# Altium integrated library TI Interface Display.IntLib: 133 symbols (part 1 of 16)
Pins are listed as number, name and electrical type; pins without a type are passive.

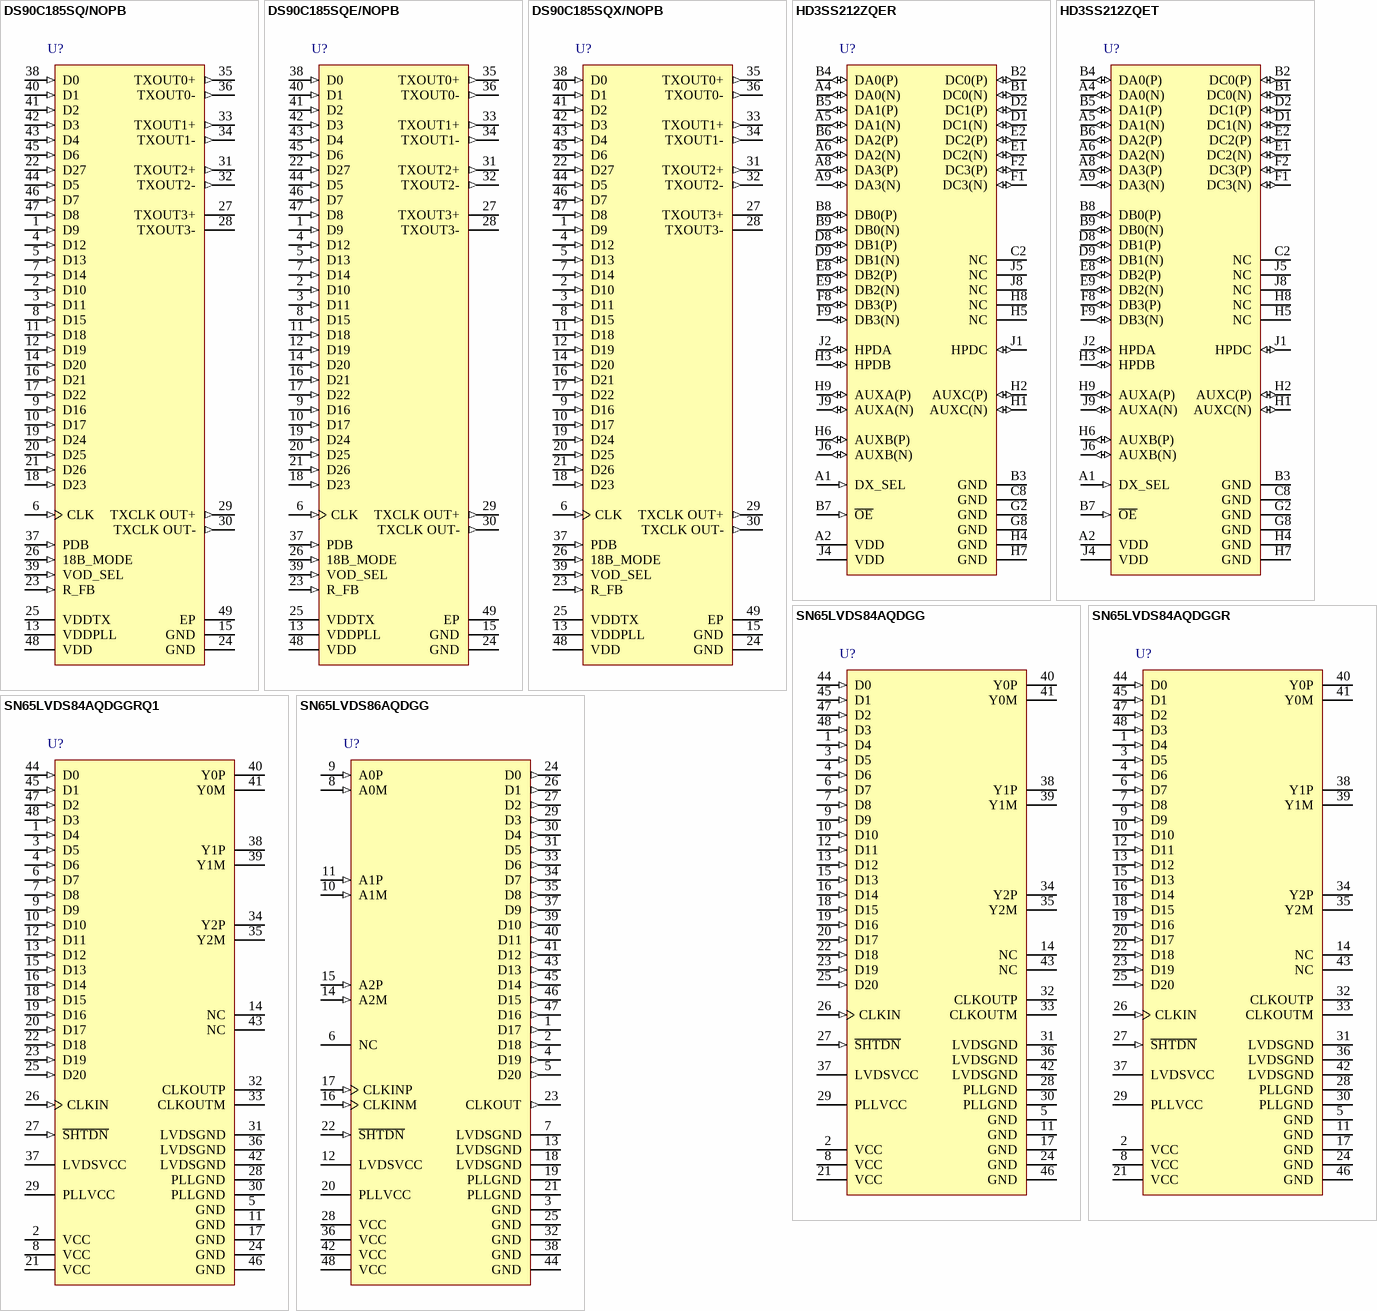
[diagram p0: symbols DS90C185SQ/NOPB to SN65LVDS86AQDGG]

## DS90C185SQ/NOPB
designator U?
367 MB/s Low Power FPD-Link (LVDS) Serializer with 4 Transmitter Channels, 1.8 V, SQF48A; Manufacturer: Texas Instruments; PartNumber: DS90C185SQ/NOPB; Data Throughput(MB/s): 367; Driver (RL)(Ohms): 100; Number of Parallel Inputs: 28; PLL Frequency(MHz): 25 - 105; Serial Data Transmitter Channels: 4; SubFamily: FlatLink (LVDS for LCD); Supply Voltage(s)(V): 1.8; DatasheetVersion: SNLS402; PackageVersion: revA, Apr-2012; PackageReference: SQF48A; PackageDescription: 48-Pin LLP Quad Package, 6 x 6 mm Body, 0.4 mm Pitch, 4.6 x 4.6 mm Exposed Pad; Supplier 1: Digi-Key; Supplier Part Number 1: DS90C185SQ/NOPBTR-ND; Supplier 2: Digi-Key; Supplier Part Number 2: DS90C185SQ/NOPBCT-ND; Supplier 3: Digi-Key; Supplier Part Number 3: DS90C185SQ/NOPBDKR-ND; Supplier 4: Newark; Supplier Part Number 4: 05W7593; Supplier 5: Mouser; Supplier Part Number 5: N/A; Driver tpd(ns): 100; Type of Line Circuit: Serializer; Mounting Technology: Surface Mount; ComponentLink1Description: Datasheet; ComponentLink1URL: http://www.ti.com/general/docs/lit/getliterature.tsp?genericPartNumber=DS90C185&fileType=pdf; ComponentLink2Description: URL Link1; ComponentLink2URL: SamplesURL:http://www.ti.com/product/ds90c185#samples
footprint SQF48A (QFN, 48-Leads, Body 6x6mm, Pitch 0.4mm, Thermal Pad 4.6x4.6mm, TI Recommended)
footprint SQF48A_N (QFN, 48-Leads, Body 6x6mm, Pitch 0.4mm, Thermal Pad 4.6x4.6mm, IPC Medium Density)
footprint SQF48A_L (QFN, 48-Leads, Body 6x6mm, Pitch 0.4mm, Thermal Pad 4.6x4.6mm, IPC High Density)
footprint SQF48A_M (QFN, 48-Leads, Body 6x6mm, Pitch 0.4mm, Thermal Pad 4.6x4.6mm, IPC Low Density)
pins: 1 D9 (in) "Data input pins.This includes: 8 Red, 8 Green, 8 Blue, and 3 video control lines and a general purpose or L/R control bit. Includes pull down.", 2 D10 (in) "Data input pins.This includes: 8 Red, 8 Green, 8 Blue, and 3 video control lines and a general purpose or L/R control bit. Includes pull down.", 3 D11 (in) "Data input pins.This includes: 8 Red, 8 Green, 8 Blue, and 3 video control lines and a general purpose or L/R control bit. Includes pull down.", 4 D12 (in) "Data input pins.This includes: 8 Red, 8 Green, 8 Blue, and 3 video control lines and a general purpose or L/R control bit. Includes pull down.", 5 D13 (in) "Data input pins.This includes: 8 Red, 8 Green, 8 Blue, and 3 video control lines and a general purpose or L/R control bit. Includes pull down.", 6 CLK (in) "Clock input. Includes pull down.", 7 D14 (in) "Data input pins.This includes: 8 Red, 8 Green, 8 Blue, and 3 video control lines and a general purpose or L/R control bit. Includes pull down.", 8 D15 (in) "Data input pins.This includes: 8 Red, 8 Green, 8 Blue, and 3 video control lines and a general purpose or L/R control bit. Includes pull down.", 9 D16 (in) "Data input pins.This includes: 8 Red, 8 Green, 8 Blue, and 3 video control lines and a general purpose or L/R control bit. Includes pull down.", 10 D17 (in) "Data input pins.This includes: 8 Red, 8 Green, 8 Blue, and 3 video control lines and a general purpose or L/R control bit. Includes pull down.", 11 D18 (in) "Data input pins.This includes: 8 Red, 8 Green, 8 Blue, and 3 video control lines and a general purpose or L/R control bit. Includes pull down.", 12 D19 (in) "Data input pins.This includes: 8 Red, 8 Green, 8 Blue, and 3 video control lines and a general purpose or L/R control bit. Includes pull down.", 13 VDDPLL (power) "PLL power input.", 14 D20 (in) "Data input pins.This includes: 8 Red, 8 Green, 8 Blue, and 3 video control lines and a general purpose or L/R control bit. Includes pull down.", 15 GND (power) "Ground pins.", 16 D21 (in) "Data input pins.This includes: 8 Red, 8 Green, 8 Blue, and 3 video control lines and a general purpose or L/R control bit. Includes pull down.", 17 D22 (in) "Data input pins.This includes: 8 Red, 8 Green, 8 Blue, and 3 video control lines and a general purpose or L/R control bit. Includes pull down.", 18 D23 (in) "Data input pins.This includes: 8 Red, 8 Green, 8 Blue, and 3 video control lines and a general purpose or L/R control bit. Includes pull down.", 19 D24 (in) "Data input pins.This includes: 8 Red, 8 Green, 8 Blue, and 3 video control lines and a general purpose or L/R control bit. Includes pull down.", 20 D25 (in) "Data input pins.This includes: 8 Red, 8 Green, 8 Blue, and 3 video control lines and a general purpose or L/R control bit. Includes pull down.", 21 D26 (in) "Data input pins.This includes: 8 Red, 8 Green, 8 Blue, and 3 video control lines and a general purpose or L/R control bit. Includes pull down.", 22 D27 (in) "Data input pins.This includes: 8 Red, 8 Green, 8 Blue, and 3 video control lines and a general purpose or L/R control bit. Includes pull down.", 23 R_FB (in) "LVTTL Ievel programmable strobe select. 1 = Rising Edge Clock 0 = Falling Edge Clock Includes pull down.", 24 GND (power) "Ground pins.", 25 VDDTX (power) "LVDS driver power input.", 26 18B_MODE (in) "Mode Configuration Input. 1 = 3D+C (18 bit RGB mode) 0 = 4D+C (24 bit RGB mode)-- default. Includes pull down.", 27 TXOUT3+ (hiz) "LVDS Output Data -- Expects 100 ohm DC load.", 28 TXOUT3- (hiz) "LVDS Output Data -- Expects 100 ohm DC load.", 29 TXCLK OUT+ (out) "LVDS Output Clock -- Expects 100 ohm DC load.", 30 TXCLK OUT- (out) "LVDS Output Clock -- Expects 100 ohm DC load.", 31 TXOUT2+ (out) "LVDS Output Data -- Expects 100 ohm DC load.", 32 TXOUT2- (out) "LVDS Output Data -- Expects 100 ohm DC load.", 33 TXOUT1+ (out) "LVDS Output Data -- Expects 100 ohm DC load.", 34 TXOUT1- (out) "LVDS Output Data -- Expects 100 ohm DC load.", 35 TXOUT0+ (out) "LVDS Output Data -- Expects 100 ohm DC load.", 36 TXOUT0- (out) "LVDS Output Data -- Expects 100 ohm DC load.", 37 PDB (in) "Power Down Bar(Sleep) Input. 1 = ACTIVE 0 = Sleep State (low power idle) -- default. Includes pull down.", 38 D0 (in) "Data input pins.This includes: 8 Red, 8 Green, 8 Blue, and 3 video control lines and a general purpose or L/R control bit. Includes pull down.", 39 VOD_SEL (in) "VOD Select Input.0 = Reduced VOD (lower power) 1=Normal VOD -- default. Includes pull down.", 40 D1 (in) "Data input pins.This includes: 8 Red, 8 Green, 8 Blue, and 3 video control lines and a general purpose or L/R control bit. Includes pull down.", 41 D2 (in) "Data input pins.This includes: 8 Red, 8 Green, 8 Blue, and 3 video control lines and a general purpose or L/R control bit. Includes pull down.", 42 D3 (in) "Data input pins.This includes: 8 Red, 8 Green, 8 Blue, and 3 video control lines and a general purpose or L/R control bit. Includes pull down.", 43 D4 (in) "Data input pins.This includes: 8 Red, 8 Green, 8 Blue, and 3 video control lines and a general purpose or L/R control bit. Includes pull down.", 44 D5 (in) "Data input pins.This includes: 8 Red, 8 Green, 8 Blue, and 3 video control lines and a general purpose or L/R control bit. Includes pull down.", 45 D6 (in) "Data input pins.This includes: 8 Red, 8 Green, 8 Blue, and 3 video control lines and a general purpose or L/R control bit. Includes pull down.", 46 D7 (in) "Data input pins.This includes: 8 Red, 8 Green, 8 Blue, and 3 video control lines and a general purpose or L/R control bit. Includes pull down.", 47 D8 (in) "Data input pins.This includes: 8 Red, 8 Green, 8 Blue, and 3 video control lines and a general purpose or L/R control bit. Includes pull down.", 48 VDD (power) "Digital power input.", 49 EP (power) "Connect DAP to ground plane"

## DS90C185SQE/NOPB
designator U?
367 MB/s Low Power FPD-Link (LVDS) Serializer with 4 Transmitter Channels, 1.8 V, 48-pin LLP (SQF); Manufacturer: Texas Instruments; PartNumber: DS90C185SQE/NOPB; Data Throughput(MB/s): 367; Driver (RL)(Ohms): 100; Number of Parallel Inputs: 28; PLL Frequency(MHz): 25 - 105; Serial Data Transmitter Channels: 4; SubFamily: FlatLink (LVDS for LCD); Supply Voltage(s)(V): 1.8; DatasheetVersion: SNLS402; PackageVersion: revA, Apr-2012; PackageReference: SQF48A; PackageDescription: 48-Pin LLP Quad Package, 6 x 6 mm Body, 0.4 mm Pitch, 4.6 x 4.6 mm Exposed Pad; Supplier 1: Newark; Supplier Part Number 1: 05W7594; Supplier 2: Mouser; Supplier Part Number 2: N/A; Driver tpd(ns): 100; Type of Line Circuit: Serializer; Mounting Technology: Surface Mount; ComponentLink1Description: Datasheet; ComponentLink1URL: http://www.ti.com/general/docs/lit/getliterature.tsp?genericPartNumber=DS90C185&fileType=pdf; ComponentLink2Description: URL Link1; ComponentLink2URL: SamplesURL:http://www.ti.com/product/ds90c185#samples
footprint SQF48A (QFN, 48-Leads, Body 6x6mm, Pitch 0.4mm, Thermal Pad 4.6x4.6mm, TI Recommended)
footprint SQF48A_N (QFN, 48-Leads, Body 6x6mm, Pitch 0.4mm, Thermal Pad 4.6x4.6mm, IPC Medium Density)
footprint SQF48A_L (QFN, 48-Leads, Body 6x6mm, Pitch 0.4mm, Thermal Pad 4.6x4.6mm, IPC High Density)
footprint SQF48A_M (QFN, 48-Leads, Body 6x6mm, Pitch 0.4mm, Thermal Pad 4.6x4.6mm, IPC Low Density)
pins: 1 D9 (in) "Data input pins.This includes: 8 Red, 8 Green, 8 Blue, and 3 video control lines and a general purpose or L/R control bit. Includes pull down.", 2 D10 (in) "Data input pins.This includes: 8 Red, 8 Green, 8 Blue, and 3 video control lines and a general purpose or L/R control bit. Includes pull down.", 3 D11 (in) "Data input pins.This includes: 8 Red, 8 Green, 8 Blue, and 3 video control lines and a general purpose or L/R control bit. Includes pull down.", 4 D12 (in) "Data input pins.This includes: 8 Red, 8 Green, 8 Blue, and 3 video control lines and a general purpose or L/R control bit. Includes pull down.", 5 D13 (in) "Data input pins.This includes: 8 Red, 8 Green, 8 Blue, and 3 video control lines and a general purpose or L/R control bit. Includes pull down.", 6 CLK (in) "Clock input. Includes pull down.", 7 D14 (in) "Data input pins.This includes: 8 Red, 8 Green, 8 Blue, and 3 video control lines and a general purpose or L/R control bit. Includes pull down.", 8 D15 (in) "Data input pins.This includes: 8 Red, 8 Green, 8 Blue, and 3 video control lines and a general purpose or L/R control bit. Includes pull down.", 9 D16 (in) "Data input pins.This includes: 8 Red, 8 Green, 8 Blue, and 3 video control lines and a general purpose or L/R control bit. Includes pull down.", 10 D17 (in) "Data input pins.This includes: 8 Red, 8 Green, 8 Blue, and 3 video control lines and a general purpose or L/R control bit. Includes pull down.", 11 D18 (in) "Data input pins.This includes: 8 Red, 8 Green, 8 Blue, and 3 video control lines and a general purpose or L/R control bit. Includes pull down.", 12 D19 (in) "Data input pins.This includes: 8 Red, 8 Green, 8 Blue, and 3 video control lines and a general purpose or L/R control bit. Includes pull down.", 13 VDDPLL (power) "PLL power input.", 14 D20 (in) "Data input pins.This includes: 8 Red, 8 Green, 8 Blue, and 3 video control lines and a general purpose or L/R control bit. Includes pull down.", 15 GND (power) "Ground pins.", 16 D21 (in) "Data input pins.This includes: 8 Red, 8 Green, 8 Blue, and 3 video control lines and a general purpose or L/R control bit. Includes pull down.", 17 D22 (in) "Data input pins.This includes: 8 Red, 8 Green, 8 Blue, and 3 video control lines and a general purpose or L/R control bit. Includes pull down.", 18 D23 (in) "Data input pins.This includes: 8 Red, 8 Green, 8 Blue, and 3 video control lines and a general purpose or L/R control bit. Includes pull down.", 19 D24 (in) "Data input pins.This includes: 8 Red, 8 Green, 8 Blue, and 3 video control lines and a general purpose or L/R control bit. Includes pull down.", 20 D25 (in) "Data input pins.This includes: 8 Red, 8 Green, 8 Blue, and 3 video control lines and a general purpose or L/R control bit. Includes pull down.", 21 D26 (in) "Data input pins.This includes: 8 Red, 8 Green, 8 Blue, and 3 video control lines and a general purpose or L/R control bit. Includes pull down.", 22 D27 (in) "Data input pins.This includes: 8 Red, 8 Green, 8 Blue, and 3 video control lines and a general purpose or L/R control bit. Includes pull down.", 23 R_FB (in) "LVTTL Ievel programmable strobe select. 1 = Rising Edge Clock 0 = Falling Edge Clock Includes pull down.", 24 GND (power) "Ground pins.", 25 VDDTX (power) "LVDS driver power input.", 26 18B_MODE (in) "Mode Configuration Input. 1 = 3D+C (18 bit RGB mode) 0 = 4D+C (24 bit RGB mode)-- default. Includes pull down.", 27 TXOUT3+ (hiz) "LVDS Output Data -- Expects 100 ohm DC load.", 28 TXOUT3- (hiz) "LVDS Output Data -- Expects 100 ohm DC load.", 29 TXCLK OUT+ (out) "LVDS Output Clock -- Expects 100 ohm DC load.", 30 TXCLK OUT- (out) "LVDS Output Clock -- Expects 100 ohm DC load.", 31 TXOUT2+ (out) "LVDS Output Data -- Expects 100 ohm DC load.", 32 TXOUT2- (out) "LVDS Output Data -- Expects 100 ohm DC load.", 33 TXOUT1+ (out) "LVDS Output Data -- Expects 100 ohm DC load.", 34 TXOUT1- (out) "LVDS Output Data -- Expects 100 ohm DC load.", 35 TXOUT0+ (out) "LVDS Output Data -- Expects 100 ohm DC load.", 36 TXOUT0- (out) "LVDS Output Data -- Expects 100 ohm DC load.", 37 PDB (in) "Power Down Bar(Sleep) Input. 1 = ACTIVE 0 = Sleep State (low power idle) -- default. Includes pull down.", 38 D0 (in) "Data input pins.This includes: 8 Red, 8 Green, 8 Blue, and 3 video control lines and a general purpose or L/R control bit. Includes pull down.", 39 VOD_SEL (in) "VOD Select Input.0 = Reduced VOD (lower power) 1=Normal VOD -- default. Includes pull down.", 40 D1 (in) "Data input pins.This includes: 8 Red, 8 Green, 8 Blue, and 3 video control lines and a general purpose or L/R control bit. Includes pull down.", 41 D2 (in) "Data input pins.This includes: 8 Red, 8 Green, 8 Blue, and 3 video control lines and a general purpose or L/R control bit. Includes pull down.", 42 D3 (in) "Data input pins.This includes: 8 Red, 8 Green, 8 Blue, and 3 video control lines and a general purpose or L/R control bit. Includes pull down.", 43 D4 (in) "Data input pins.This includes: 8 Red, 8 Green, 8 Blue, and 3 video control lines and a general purpose or L/R control bit. Includes pull down.", 44 D5 (in) "Data input pins.This includes: 8 Red, 8 Green, 8 Blue, and 3 video control lines and a general purpose or L/R control bit. Includes pull down.", 45 D6 (in) "Data input pins.This includes: 8 Red, 8 Green, 8 Blue, and 3 video control lines and a general purpose or L/R control bit. Includes pull down.", 46 D7 (in) "Data input pins.This includes: 8 Red, 8 Green, 8 Blue, and 3 video control lines and a general purpose or L/R control bit. Includes pull down.", 47 D8 (in) "Data input pins.This includes: 8 Red, 8 Green, 8 Blue, and 3 video control lines and a general purpose or L/R control bit. Includes pull down.", 48 VDD (power) "Digital power input.", 49 EP (power) "Connect DAP to ground plane"

## DS90C185SQX/NOPB
designator U?
367 MB/s Low Power FPD-Link (LVDS) Serializer with 4 Transmitter Channels, 1.8 V, 48-pin LLP (SQF); Manufacturer: Texas Instruments; PartNumber: DS90C185SQX/NOPB; Data Throughput(MB/s): 367; Driver (RL)(Ohms): 100; Number of Parallel Inputs: 28; PLL Frequency(MHz): 25 - 105; Serial Data Transmitter Channels: 4; SubFamily: FlatLink (LVDS for LCD); Supply Voltage(s)(V): 1.8; DatasheetVersion: SNLS402; PackageVersion: revA, Apr-2012; PackageReference: SQF48A; PackageDescription: 48-Pin LLP Quad Package, 6 x 6 mm Body, 0.4 mm Pitch, 4.6 x 4.6 mm Exposed Pad; Supplier 1: Newark; Supplier Part Number 1: 05W7595; Supplier 2: Mouser; Supplier Part Number 2: N/A; Driver tpd(ns): 100; Type of Line Circuit: Serializer; Mounting Technology: Surface Mount; ComponentLink1Description: Datasheet; ComponentLink1URL: http://www.ti.com/general/docs/lit/getliterature.tsp?genericPartNumber=DS90C185&fileType=pdf; ComponentLink2Description: URL Link1; ComponentLink2URL: SamplesURL:http://www.ti.com/product/ds90c185#samples
footprint SQF48A (QFN, 48-Leads, Body 6x6mm, Pitch 0.4mm, Thermal Pad 4.6x4.6mm, TI Recommended)
footprint SQF48A_N (QFN, 48-Leads, Body 6x6mm, Pitch 0.4mm, Thermal Pad 4.6x4.6mm, IPC Medium Density)
footprint SQF48A_L (QFN, 48-Leads, Body 6x6mm, Pitch 0.4mm, Thermal Pad 4.6x4.6mm, IPC High Density)
footprint SQF48A_M (QFN, 48-Leads, Body 6x6mm, Pitch 0.4mm, Thermal Pad 4.6x4.6mm, IPC Low Density)
pins: 1 D9 (in) "Data input pins.This includes: 8 Red, 8 Green, 8 Blue, and 3 video control lines and a general purpose or L/R control bit. Includes pull down.", 2 D10 (in) "Data input pins.This includes: 8 Red, 8 Green, 8 Blue, and 3 video control lines and a general purpose or L/R control bit. Includes pull down.", 3 D11 (in) "Data input pins.This includes: 8 Red, 8 Green, 8 Blue, and 3 video control lines and a general purpose or L/R control bit. Includes pull down.", 4 D12 (in) "Data input pins.This includes: 8 Red, 8 Green, 8 Blue, and 3 video control lines and a general purpose or L/R control bit. Includes pull down.", 5 D13 (in) "Data input pins.This includes: 8 Red, 8 Green, 8 Blue, and 3 video control lines and a general purpose or L/R control bit. Includes pull down.", 6 CLK (in) "Clock input. Includes pull down.", 7 D14 (in) "Data input pins.This includes: 8 Red, 8 Green, 8 Blue, and 3 video control lines and a general purpose or L/R control bit. Includes pull down.", 8 D15 (in) "Data input pins.This includes: 8 Red, 8 Green, 8 Blue, and 3 video control lines and a general purpose or L/R control bit. Includes pull down.", 9 D16 (in) "Data input pins.This includes: 8 Red, 8 Green, 8 Blue, and 3 video control lines and a general purpose or L/R control bit. Includes pull down.", 10 D17 (in) "Data input pins.This includes: 8 Red, 8 Green, 8 Blue, and 3 video control lines and a general purpose or L/R control bit. Includes pull down.", 11 D18 (in) "Data input pins.This includes: 8 Red, 8 Green, 8 Blue, and 3 video control lines and a general purpose or L/R control bit. Includes pull down.", 12 D19 (in) "Data input pins.This includes: 8 Red, 8 Green, 8 Blue, and 3 video control lines and a general purpose or L/R control bit. Includes pull down.", 13 VDDPLL (power) "PLL power input.", 14 D20 (in) "Data input pins.This includes: 8 Red, 8 Green, 8 Blue, and 3 video control lines and a general purpose or L/R control bit. Includes pull down.", 15 GND (power) "Ground pins.", 16 D21 (in) "Data input pins.This includes: 8 Red, 8 Green, 8 Blue, and 3 video control lines and a general purpose or L/R control bit. Includes pull down.", 17 D22 (in) "Data input pins.This includes: 8 Red, 8 Green, 8 Blue, and 3 video control lines and a general purpose or L/R control bit. Includes pull down.", 18 D23 (in) "Data input pins.This includes: 8 Red, 8 Green, 8 Blue, and 3 video control lines and a general purpose or L/R control bit. Includes pull down.", 19 D24 (in) "Data input pins.This includes: 8 Red, 8 Green, 8 Blue, and 3 video control lines and a general purpose or L/R control bit. Includes pull down.", 20 D25 (in) "Data input pins.This includes: 8 Red, 8 Green, 8 Blue, and 3 video control lines and a general purpose or L/R control bit. Includes pull down.", 21 D26 (in) "Data input pins.This includes: 8 Red, 8 Green, 8 Blue, and 3 video control lines and a general purpose or L/R control bit. Includes pull down.", 22 D27 (in) "Data input pins.This includes: 8 Red, 8 Green, 8 Blue, and 3 video control lines and a general purpose or L/R control bit. Includes pull down.", 23 R_FB (in) "LVTTL Ievel programmable strobe select. 1 = Rising Edge Clock 0 = Falling Edge Clock Includes pull down.", 24 GND (power) "Ground pins.", 25 VDDTX (power) "LVDS driver power input.", 26 18B_MODE (in) "Mode Configuration Input. 1 = 3D+C (18 bit RGB mode) 0 = 4D+C (24 bit RGB mode)-- default. Includes pull down.", 27 TXOUT3+ (hiz) "LVDS Output Data -- Expects 100 ohm DC load.", 28 TXOUT3- (hiz) "LVDS Output Data -- Expects 100 ohm DC load.", 29 TXCLK OUT+ (out) "LVDS Output Clock -- Expects 100 ohm DC load.", 30 TXCLK OUT- (out) "LVDS Output Clock -- Expects 100 ohm DC load.", 31 TXOUT2+ (out) "LVDS Output Data -- Expects 100 ohm DC load.", 32 TXOUT2- (out) "LVDS Output Data -- Expects 100 ohm DC load.", 33 TXOUT1+ (out) "LVDS Output Data -- Expects 100 ohm DC load.", 34 TXOUT1- (out) "LVDS Output Data -- Expects 100 ohm DC load.", 35 TXOUT0+ (out) "LVDS Output Data -- Expects 100 ohm DC load.", 36 TXOUT0- (out) "LVDS Output Data -- Expects 100 ohm DC load.", 37 PDB (in) "Power Down Bar(Sleep) Input. 1 = ACTIVE 0 = Sleep State (low power idle) -- default. Includes pull down.", 38 D0 (in) "Data input pins.This includes: 8 Red, 8 Green, 8 Blue, and 3 video control lines and a general purpose or L/R control bit. Includes pull down.", 39 VOD_SEL (in) "VOD Select Input.0 = Reduced VOD (lower power) 1=Normal VOD -- default. Includes pull down.", 40 D1 (in) "Data input pins.This includes: 8 Red, 8 Green, 8 Blue, and 3 video control lines and a general purpose or L/R control bit. Includes pull down.", 41 D2 (in) "Data input pins.This includes: 8 Red, 8 Green, 8 Blue, and 3 video control lines and a general purpose or L/R control bit. Includes pull down.", 42 D3 (in) "Data input pins.This includes: 8 Red, 8 Green, 8 Blue, and 3 video control lines and a general purpose or L/R control bit. Includes pull down.", 43 D4 (in) "Data input pins.This includes: 8 Red, 8 Green, 8 Blue, and 3 video control lines and a general purpose or L/R control bit. Includes pull down.", 44 D5 (in) "Data input pins.This includes: 8 Red, 8 Green, 8 Blue, and 3 video control lines and a general purpose or L/R control bit. Includes pull down.", 45 D6 (in) "Data input pins.This includes: 8 Red, 8 Green, 8 Blue, and 3 video control lines and a general purpose or L/R control bit. Includes pull down.", 46 D7 (in) "Data input pins.This includes: 8 Red, 8 Green, 8 Blue, and 3 video control lines and a general purpose or L/R control bit. Includes pull down.", 47 D8 (in) "Data input pins.This includes: 8 Red, 8 Green, 8 Blue, and 3 video control lines and a general purpose or L/R control bit. Includes pull down.", 48 VDD (power) "Digital power input.", 49 EP (power) "Connect DAP to ground plane"

## HD3SS212ZQER
designator U?
5.4 Gbps DisplayPort 1.2 2-to-1 Differential Switch, -40 to +85 degC, 48-pin BGA MICROSTARJUNIOR (ZQE), Green (RoHS & no Sb/Br); Manufacturer: Texas Instruments; PartNumber: HD3SS212ZQER; DatasheetVersion: SLAS822; PackageVersion: revF, Jul-2011; PackageReference: ZQE48; PackageDescription: 48-Ball Plastic Ball Grid Array, 5 x 5 mm Body, 0.5 mm Pitch, Pb-Free; Supplier 1: Digi-Key; Supplier Part Number 1: HD3SS212ZQER-ND; Supplier 2: Newark; Supplier Part Number 2: 76T6032; Supplier 3: Mouser; Supplier Part Number 3: 595-HD3SS212ZQER; SubFamily: DisplayPort; Mounting Technology: Surface Mount; Code_JEDEC: MO-225; ComponentLink1Description: Datasheet; ComponentLink1URL: http://www.ti.com/general/docs/lit/getliterature.tsp?genericPartNumber=HD3SS212&fileType=pdf
footprint ZQE48 (BGA, 48-Leads, Body 5x5mm, Pitch 0.5mm)
pins: A1 DX_SEL (in) "High Speed Port Selection Control Pins", A2 VDD (power) "3.3V Positive power supply voltage", A4 DA0(N) (io) "Port A, Channel 0, High Speed Negative Signal", A5 DA1(N) (io) "Port A, Channel 1, High Speed Negative Signal", A6 DA2(N) (io) "Port A, Channel 2, High Speed Negative Signal", A8 DA3(P) (io) "Port A, Channel 3, High Speed Positive Signal", A9 DA3(N) (io) "Port A, Channel 3, High Speed Negative Signal", B1 DC0(N) (io) "Port C, Channel 0, High Speed Negative Signal", B2 DC0(P) (io) "Port C, Channel 0, High Speed Positive Signal", B3 GND (power) "Negative power supply voltage", B4 DA0(P) (io) "Port A, Channel 0, High Speed Positive Signal", B5 DA1(P) (io) "Port A, Channel 1, High Speed Positive Signal", B6 DA2(P) (io) "Port A, Channel 2, High Speed Positive Signal", B7 ~{OE} (in) "Output Enable", B8 DB0(P) (io) "Port B, Channel 0, High Speed Positive Signal", B9 DB0(N) (io) "Port B, Channel 0, High Speed Negative Signal", C2 NC "Electrically not connected", C8 GND (power) "Negative power supply voltage", D1 DC1(N) (io) "Port C, Channel 1, High Speed Negative Signal", D2 DC1(P) (io) "Port C, Channel 1, High Speed Positive Signal", D8 DB1(P) (io) "Port B, Channel 1, High Speed Positive Signal", D9 DB1(N) (io) "Port B, Channel 1, High Speed Negative Signal", E1 DC2(N) (io) "Port C, Channel 2, High Speed Negative Signal", E2 DC2(P) (io) "Port C, Channel 2, High Speed Positive Signal", E8 DB2(P) (io) "Port B, Channel 2, High Speed Positive Signal", E9 DB2(N) (io) "Port B, Channel 2, High Speed Negative Signal", F1 DC3(N) (io) "Port C, Channel 3, High Speed Negative Signal", F2 DC3(P) (io) "Port C, Channel 3, High Speed Positive Signal", F8 DB3(P) (io) "Port B, Channel 3, High Speed Positive Signal", F9 DB3(N) (io) "Port B, Channel 3, High Speed Negative Signal", G2 GND (power) "Negative power supply voltage", G8 GND (power) "Negative power supply voltage", H1 AUXC(N) (io) "Port C AUX Negative Signal", H2 AUXC(P) (io) "Port C AUX Positive Signal", H3 HPDB (io) "Port A/B/C Hot Plug Detect", H4 GND (power) "Negative power supply voltage", H5 NC "Electrically not connected", H6 AUXB(P) (io) "Port B AUX Positive Signal", H7 GND (power) "Negative power supply voltage", H8 NC "Electrically not connected", H9 AUXA(P) (io) "Port A AUX Positive Signal", J1 HPDC (io) "Port A/B/C Hot Plug Detect", J2 HPDA (io) "Port A/B/C Hot Plug Detect", J4 VDD (power) "3.3V Positive power supply voltage", J5 NC "Electrically not connected", J6 AUXB(N) (io) "Port B AUX Negative Signal", J8 NC "Electrically not connected", J9 AUXA(N) (io) "Port A AUX Negative Signal"

## HD3SS212ZQET
designator U?
5.4 Gbps DisplayPort 1.2 2-to-1 Differential Switch, -40 to +85 degC, 48-pin BGA MICROSTARJUNIOR (ZQE), Green (RoHS & no Sb/Br); Manufacturer: Texas Instruments; PartNumber: HD3SS212ZQET; DatasheetVersion: SLAS822; PackageVersion: revF, Jul-2011; PackageReference: ZQE48; PackageDescription: 48-Ball Plastic Ball Grid Array, 5 x 5 mm Body, 0.5 mm Pitch, Pb-Free; Supplier 1: Digi-Key; Supplier Part Number 1: HD3SS212ZQET-ND; Supplier 2: Newark; Supplier Part Number 2: 76T6033; Supplier 3: Mouser; Supplier Part Number 3: 595-HD3SS212ZQET; SubFamily: DisplayPort; Mounting Technology: Surface Mount; Code_JEDEC: MO-225; ComponentLink1Description: Datasheet; ComponentLink1URL: http://www.ti.com/general/docs/lit/getliterature.tsp?genericPartNumber=HD3SS212&fileType=pdf
footprint ZQE48 (BGA, 48-Leads, Body 5x5mm, Pitch 0.5mm)
pins: A1 DX_SEL (in) "High Speed Port Selection Control Pins", A2 VDD (power) "3.3V Positive power supply voltage", A4 DA0(N) (io) "Port A, Channel 0, High Speed Negative Signal", A5 DA1(N) (io) "Port A, Channel 1, High Speed Negative Signal", A6 DA2(N) (io) "Port A, Channel 2, High Speed Negative Signal", A8 DA3(P) (io) "Port A, Channel 3, High Speed Positive Signal", A9 DA3(N) (io) "Port A, Channel 3, High Speed Negative Signal", B1 DC0(N) (io) "Port C, Channel 0, High Speed Negative Signal", B2 DC0(P) (io) "Port C, Channel 0, High Speed Positive Signal", B3 GND (power) "Negative power supply voltage", B4 DA0(P) (io) "Port A, Channel 0, High Speed Positive Signal", B5 DA1(P) (io) "Port A, Channel 1, High Speed Positive Signal", B6 DA2(P) (io) "Port A, Channel 2, High Speed Positive Signal", B7 ~{OE} (in) "Output Enable", B8 DB0(P) (io) "Port B, Channel 0, High Speed Positive Signal", B9 DB0(N) (io) "Port B, Channel 0, High Speed Negative Signal", C2 NC "Electrically not connected", C8 GND (power) "Negative power supply voltage", D1 DC1(N) (io) "Port C, Channel 1, High Speed Negative Signal", D2 DC1(P) (io) "Port C, Channel 1, High Speed Positive Signal", D8 DB1(P) (io) "Port B, Channel 1, High Speed Positive Signal", D9 DB1(N) (io) "Port B, Channel 1, High Speed Negative Signal", E1 DC2(N) (io) "Port C, Channel 2, High Speed Negative Signal", E2 DC2(P) (io) "Port C, Channel 2, High Speed Positive Signal", E8 DB2(P) (io) "Port B, Channel 2, High Speed Positive Signal", E9 DB2(N) (io) "Port B, Channel 2, High Speed Negative Signal", F1 DC3(N) (io) "Port C, Channel 3, High Speed Negative Signal", F2 DC3(P) (io) "Port C, Channel 3, High Speed Positive Signal", F8 DB3(P) (io) "Port B, Channel 3, High Speed Positive Signal", F9 DB3(N) (io) "Port B, Channel 3, High Speed Negative Signal", G2 GND (power) "Negative power supply voltage", G8 GND (power) "Negative power supply voltage", H1 AUXC(N) (io) "Port C AUX Negative Signal", H2 AUXC(P) (io) "Port C AUX Positive Signal", H3 HPDB (io) "Port A/B/C Hot Plug Detect", H4 GND (power) "Negative power supply voltage", H5 NC "Electrically not connected", H6 AUXB(P) (io) "Port B AUX Positive Signal", H7 GND (power) "Negative power supply voltage", H8 NC "Electrically not connected", H9 AUXA(P) (io) "Port A AUX Positive Signal", J1 HPDC (io) "Port A/B/C Hot Plug Detect", J2 HPDA (io) "Port A/B/C Hot Plug Detect", J4 VDD (power) "3.3V Positive power supply voltage", J5 NC "Electrically not connected", J6 AUXB(N) (io) "Port B AUX Negative Signal", J8 NC "Electrically not connected", J9 AUXA(N) (io) "Port A AUX Negative Signal"

## SN65LVDS84AQDGG
designator U?
197 MB/s Flatlink Transmitter with 3 Transmitter Channels, 3.3 V, -40 to +125 degC, 48-pin TSSOP (DGG), Green (RoHS & no Sb/Br); Manufacturer: Texas Instruments; PartNumber: SN65LVDS84AQDGG; Data Throughput(MB/s): 197; Driver (RL)(Ohms): 100; Number of Parallel Inputs: 21; PLL Frequency(MHz): 31 - 75; Serial Data Transmitter Channels: 3; SubFamily: FlatLink (LVDS for LCD); Supply Voltage(s)(V): 3.3; Type of Line Circuit: LVDS; DatasheetVersion: SLLS354E; PackageVersion: revF, Dec-1997; PackageReference: DGG48; PackageDescription: 48-Pin Plastic Thin Shrink Small Outline Package 0.5 mm Pitch; Supplier 1: Digi-Key; Supplier Part Number 1: 296-9747-5-ND; Supplier 2: Farnell; Supplier Part Number 2: 1755017; Supplier 3: Newark; Supplier Part Number 3: 50R5680; Supplier 4: Newark; Supplier Part Number 4: 76C0798; Supplier 5: Mouser; Supplier Part Number 5: 595-SN65LVDS84AQDGG; Eco-Plan: Green (RoHS & no Sb/Br); Mounting Technology: Surface Mount; Code_JEDEC: MO-153; ComponentLink1Description: Datasheet; ComponentLink1URL: http://www.ti.com/general/docs/lit/getliterature.tsp?genericPartNumber=SN65LVDS84A&fileType=pdf; ComponentLink2Description: URL Link1; ComponentLink2URL: SamplesURL:http://www.ti.com/product/sn65lvds84a#samples
footprint DGG48_N (TSSOP, 48-Leads, Body 12.5x6.1mm, Pitch 0.5mm, IPC Medium Density)
footprint DGG48_L (TSSOP, 48-Leads, Body 12.5x6.1mm, Pitch 0.5mm, IPC High Density)
footprint DGG48_M (TSSOP, 48-Leads, Body 12.5x6.1mm, Pitch 0.5mm, IPC Low Density)
pins: 1 D4 (in), 2 VCC (power), 3 D5 (in), 4 D6 (in), 5 GND (power), 6 D7 (in), 7 D8 (in), 8 VCC (power), 9 D9 (in), 10 D10 (in), 11 GND (power), 12 D11 (in), 13 D12 (in), 14 NC, 15 D13 (in), 16 D14 (in), 17 GND (power), 18 D15 (in), 19 D16 (in), 20 D17 (in), 21 VCC (power), 22 D18 (in), 23 D19 (in), 24 GND (power), 25 D20 (in), 26 CLKIN (in), 27 ~{SHTDN} (in), 28 PLLGND (power), 29 PLLVCC (power), 30 PLLGND (power), 31 LVDSGND (power), 32 CLKOUTP (hiz), 33 CLKOUTM (hiz), 34 Y2P (hiz), 35 Y2M (hiz), 36 LVDSGND (power), 37 LVDSVCC (power), 38 Y1P (hiz), 39 Y1M (hiz), 40 Y0P (hiz), 41 Y0M (hiz), 42 LVDSGND (power), 43 NC, 44 D0 (in), 45 D1 (in), 46 GND (power), 47 D2 (in), 48 D3 (in)

## SN65LVDS84AQDGGR
designator U?
197 MB/s Flatlink Transmitter with Receiver 3 Transmitter Channels, 3.3 V, -40 to +125 degC, 48-pin TSSOP (DGG), Green (RoHS & no Sb/Br); Manufacturer: Texas Instruments; PartNumber: SN65LVDS84AQDGGR; Data Throughput(MB/s): 197; Driver (RL)(Ohms): 100; Number of Parallel Inputs: 21; PLL Frequency(MHz): 31 - 75; Serial Data Transmitter Channels: 3; SubFamily: FlatLink (LVDS for LCD); Supply Voltage(s)(V): 3.3; Type of Line Circuit: LVDS; DatasheetVersion: SLLS354E; PackageVersion: revF, Dec-1997; PackageReference: DGG48; PackageDescription: 48-Pin Plastic Thin Shrink Small Outline Package 0.5 mm Pitch; Supplier 1: Digi-Key; Supplier Part Number 1: 296-9747-2-ND; Supplier 2: Digi-Key; Supplier Part Number 2: 296-9747-1-ND; Supplier 3: Digi-Key; Supplier Part Number 3: 296-9747-6-ND; Supplier 4: Newark; Supplier Part Number 4: 76C0799; Supplier 5: Mouser; Supplier Part Number 5: 595-SN65LVDS84AQDGGR; Eco-Plan: Green (RoHS & no Sb/Br); Mounting Technology: Surface Mount; Code_JEDEC: MO-153; ComponentLink1Description: Datasheet; ComponentLink1URL: http://www.ti.com/general/docs/lit/getliterature.tsp?genericPartNumber=SN65LVDS84A&fileType=pdf; ComponentLink2Description: URL Link1; ComponentLink2URL: SamplesURL:http://www.ti.com/product/sn65lvds84a#samples
footprint DGG48_N (TSSOP, 48-Leads, Body 12.5x6.1mm, Pitch 0.5mm, IPC Medium Density)
footprint DGG48_L (TSSOP, 48-Leads, Body 12.5x6.1mm, Pitch 0.5mm, IPC High Density)
footprint DGG48_M (TSSOP, 48-Leads, Body 12.5x6.1mm, Pitch 0.5mm, IPC Low Density)
pins: 1 D4 (in), 2 VCC (power), 3 D5 (in), 4 D6 (in), 5 GND (power), 6 D7 (in), 7 D8 (in), 8 VCC (power), 9 D9 (in), 10 D10 (in), 11 GND (power), 12 D11 (in), 13 D12 (in), 14 NC, 15 D13 (in), 16 D14 (in), 17 GND (power), 18 D15 (in), 19 D16 (in), 20 D17 (in), 21 VCC (power), 22 D18 (in), 23 D19 (in), 24 GND (power), 25 D20 (in), 26 CLKIN (in), 27 ~{SHTDN} (in), 28 PLLGND (power), 29 PLLVCC (power), 30 PLLGND (power), 31 LVDSGND (power), 32 CLKOUTP (hiz), 33 CLKOUTM (hiz), 34 Y2P (hiz), 35 Y2M (hiz), 36 LVDSGND (power), 37 LVDSVCC (power), 38 Y1P (hiz), 39 Y1M (hiz), 40 Y0P (hiz), 41 Y0M (hiz), 42 LVDSGND (power), 43 NC, 44 D0 (in), 45 D1 (in), 46 GND (power), 47 D2 (in), 48 D3 (in)

## SN65LVDS84AQDGGRQ1
designator U?
197 MB/s Automotive Catalog FlatLink Transmitter with 3 Transmitter Channels, 3.3 V, -40 to +125 degC, 48-pin TSSOP (DGG), Green (RoHS & no Sb/Br); Manufacturer: Texas Instruments; PartNumber: SN65LVDS84AQDGGRQ1; Data Throughput(MB/s): 197; Driver (RL)(Ohms): 100; Number of Parallel Inputs: 21; PLL Frequency(MHz): 31 - 75; Serial Data Transmitter Channels: 3; SubFamily: FlatLink (LVDS for LCD); Supply Voltage(s)(V): 3.3; Type of Line Circuit: LVDS; DatasheetVersion: SLLS766A; PackageVersion: revF, Dec-1997; PackageReference: DGG48; PackageDescription: 48-Pin Plastic Thin Shrink Small Outline Package 0.5 mm Pitch; Supplier 1: Digi-Key; Supplier Part Number 1: 296-23020-2-ND; Supplier 2: Digi-Key; Supplier Part Number 2: 296-23020-1-ND; Supplier 3: Digi-Key; Supplier Part Number 3: 296-23020-6-ND; Supplier 4: Newark; Supplier Part Number 4: 20M5770; Supplier 5: Mouser; Supplier Part Number 5: 595-65LVDS84AQDGGRQ1; Eco-Plan: Green (RoHS & no Sb/Br); Mounting Technology: Surface Mount; Code_JEDEC: MO-153; ComponentLink1Description: Datasheet; ComponentLink1URL: http://www.ti.com/general/docs/lit/getliterature.tsp?genericPartNumber=SN65LVDS84AQ-Q1&fileType=pdf; ComponentLink2Description: URL Link1; ComponentLink2URL: SamplesURL:http://www.ti.com/product/sn65lvds84aq-q1#samples
footprint DGG48_N (TSSOP, 48-Leads, Body 12.5x6.1mm, Pitch 0.5mm, IPC Medium Density)
footprint DGG48_L (TSSOP, 48-Leads, Body 12.5x6.1mm, Pitch 0.5mm, IPC High Density)
footprint DGG48_M (TSSOP, 48-Leads, Body 12.5x6.1mm, Pitch 0.5mm, IPC Low Density)
pins: 1 D4 (in), 2 VCC (power), 3 D5 (in), 4 D6 (in), 5 GND (power), 6 D7 (in), 7 D8 (in), 8 VCC (power), 9 D9 (in), 10 D10 (in), 11 GND (power), 12 D11 (in), 13 D12 (in), 14 NC, 15 D13 (in), 16 D14 (in), 17 GND (power), 18 D15 (in), 19 D16 (in), 20 D17 (in), 21 VCC (power), 22 D18 (in), 23 D19 (in), 24 GND (power), 25 D20 (in), 26 CLKIN (in), 27 ~{SHTDN} (in), 28 PLLGND (power), 29 PLLVCC (power), 30 PLLGND (power), 31 LVDSGND (power), 32 CLKOUTP (hiz), 33 CLKOUTM (hiz), 34 Y2P (hiz), 35 Y2M (hiz), 36 LVDSGND (power), 37 LVDSVCC (power), 38 Y1P (hiz), 39 Y1M (hiz), 40 Y0P (hiz), 41 Y0M (hiz), 42 LVDSGND (power), 43 NC, 44 D0 (in), 45 D1 (in), 46 GND (power), 47 D2 (in), 48 D3 (in)

## SN65LVDS86AQDGG
designator U?
163 MB/s Flatlink Receiver with 3 Receiver Channels, 3.3 V, -40 to +125 degC, 48-pin TSSOP (DGG), Green (RoHS & no Sb/Br); Manufacturer: Texas Instruments; PartNumber: SN65LVDS86AQDGG; Data Throughput(MB/s): 163; Number of Parallel Outputs: 21; PLL Frequency(MHz): 32 - 68; Receiver (Vth)(mV): 100; Receiver tpd(ns): 5; Serial Data Receiver Channels: 3; SubFamily: FlatLink (LVDS for LCD); Supply Voltage(s)(V): 3.3; Type of Line Circuit: LVDS; DatasheetVersion: SLLS318D; PackageVersion: revF, Dec-1997; PackageReference: DGG48; PackageDescription: 48-Pin Plastic Thin Shrink Small Outline Package 0.5 mm Pitch; Supplier 1: Digi-Key; Supplier Part Number 1: 296-9748-5-ND; Supplier 2: Newark; Supplier Part Number 2: 76C0800; Supplier 3: Mouser; Supplier Part Number 3: 595-SN65LVDS86AQDGG; Eco-Plan: Green (RoHS & no Sb/Br); Mounting Technology: Surface Mount; Code_JEDEC: MO-153; ComponentLink1Description: Datasheet; ComponentLink1URL: http://www.ti.com/general/docs/lit/getliterature.tsp?genericPartNumber=SN65LVDS86A&fileType=pdf; ComponentLink2Description: URL Link1; ComponentLink2URL: SamplesURL:http://www.ti.com/product/sn65lvds86a#samples
footprint DGG48_N (TSSOP, 48-Leads, Body 12.5x6.1mm, Pitch 0.5mm, IPC Medium Density)
footprint DGG48_L (TSSOP, 48-Leads, Body 12.5x6.1mm, Pitch 0.5mm, IPC High Density)
footprint DGG48_M (TSSOP, 48-Leads, Body 12.5x6.1mm, Pitch 0.5mm, IPC Low Density)
pins: 1 D17 (out), 2 D18 (out), 3 GND (power), 4 D19 (out), 5 D20 (out), 6 NC, 7 LVDSGND (power), 8 A0M (in), 9 A0P (in), 10 A1M (in), 11 A1P (in), 12 LVDSVCC (power), 13 LVDSGND (power), 14 A2M (in), 15 A2P (in), 16 CLKINM (in), 17 CLKINP (in), 18 LVDSGND (power), 19 PLLGND (power), 20 PLLVCC (power), 21 PLLGND (power), 22 ~{SHTDN} (in), 23 CLKOUT (out), 24 D0 (out), 25 GND (power), 26 D1 (out), 27 D2 (out), 28 VCC (power), 29 D3 (out), 30 D4 (out), 31 D5 (out), 32 GND (power), 33 D6 (out), 34 D7 (out), 35 D8 (out), 36 VCC (power), 37 D9 (out), 38 GND (power), 39 D10 (out), 40 D11 (out), 41 D12 (out), 42 VCC (power), 43 D13 (out), 44 GND (power), 45 D14 (out), 46 D15 (out), 47 D16 (out), 48 VCC (power)

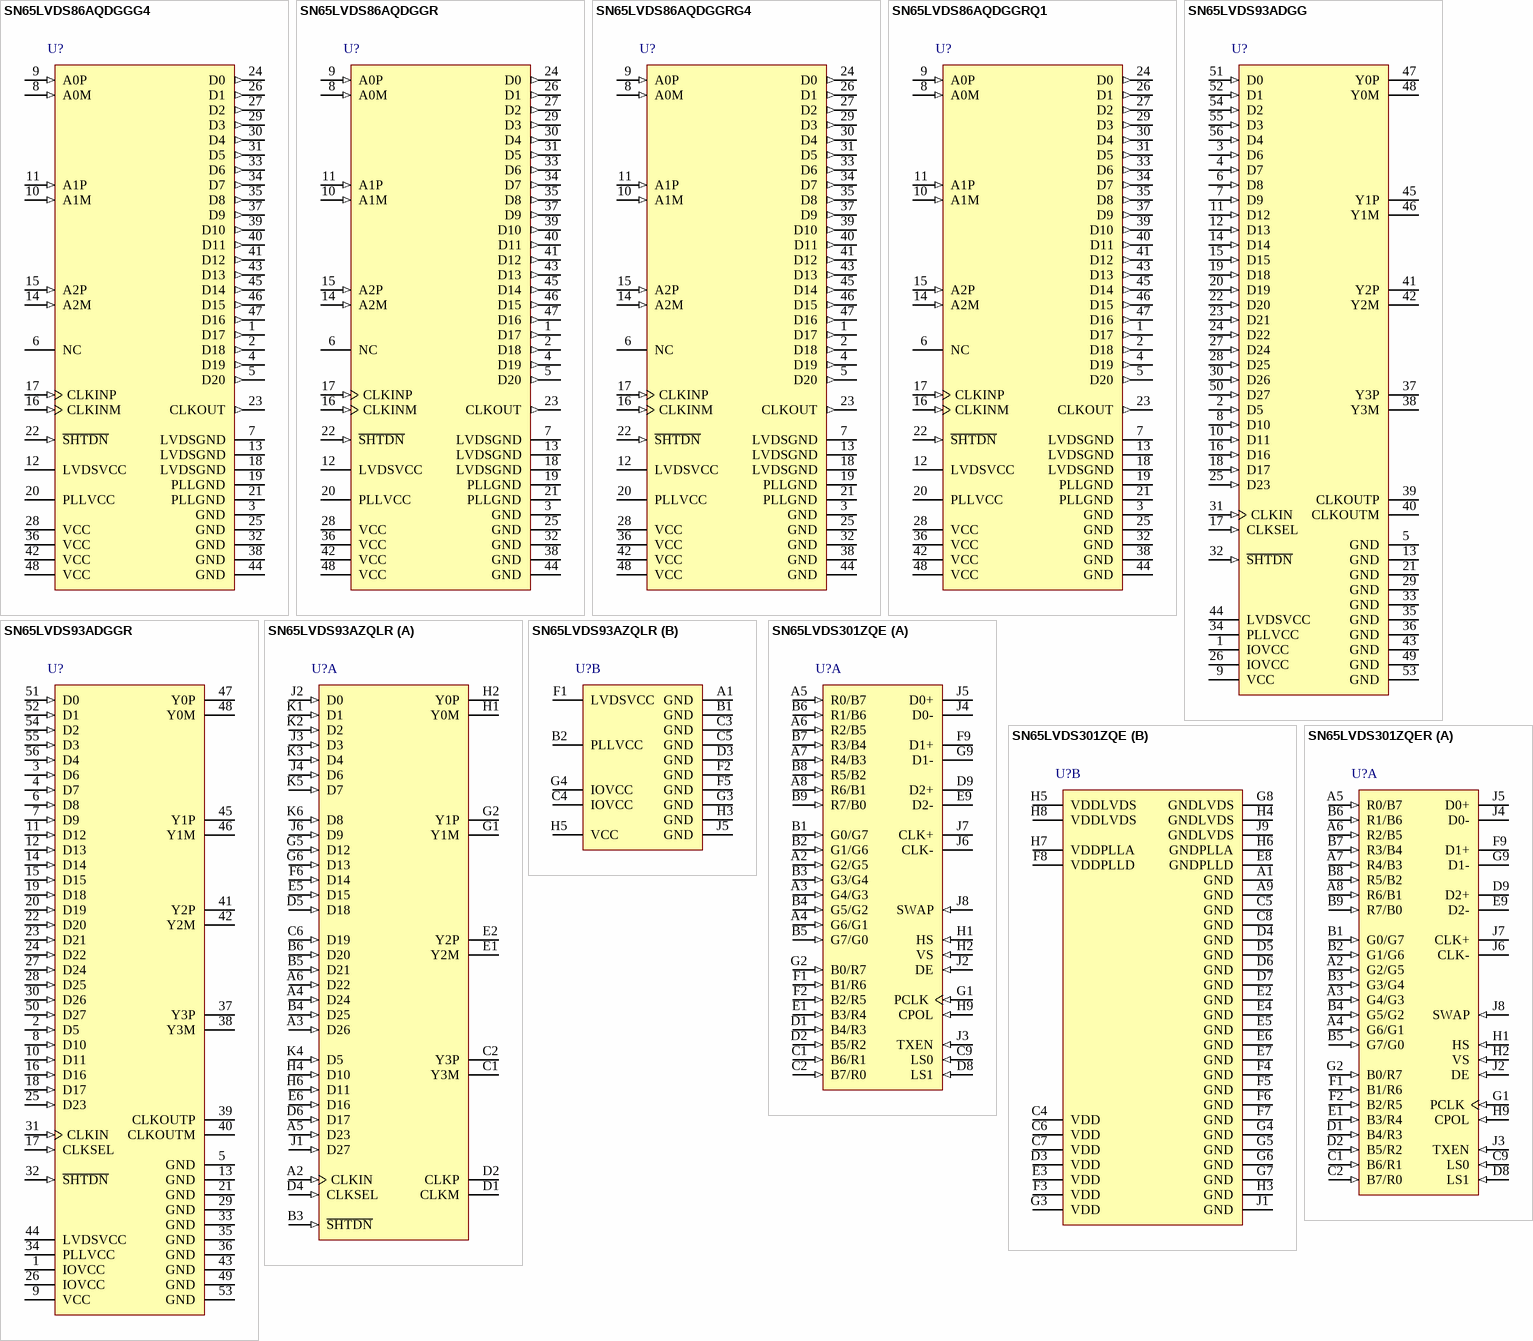
[diagram p1: symbols SN65LVDS86AQDGGG4 to SN65LVDS301ZQER]

## SN65LVDS86AQDGGG4
designator U?
163 MB/s Automotive Catalog FlatLink Receiver with 3 Receiver Channels, 3.3 V, -40 to +125 degC, 48-pin TSSOP (DGG), Green (RoHS & no Sb/Br); Manufacturer: Texas Instruments; PartNumber: SN65LVDS86AQDGGG4; Data Throughput(MB/s): 163; Number of Parallel Outputs: 21; PLL Frequency(MHz): 32 - 68; Receiver (Vth)(mV): 100; Receiver tpd(ns): 5; Serial Data Receiver Channels: 3; SubFamily: FlatLink (LVDS for LCD); Supply Voltage(s)(V): 3.3; Type of Line Circuit: LVDS; DatasheetVersion: SLLS768A; PackageVersion: revF, Dec-1997; PackageReference: DGG48; PackageDescription: 48-Pin Plastic Thin Shrink Small Outline Package 0.5 mm Pitch; Supplier 1: Mouser; Supplier Part Number 1: N/A; Eco-Plan: Green (RoHS & no Sb/Br); Mounting Technology: Surface Mount; Code_JEDEC: MO-153; ComponentLink1Description: Datasheet; ComponentLink1URL: http://www.ti.com/general/docs/lit/getliterature.tsp?genericPartNumber=SN65LVDS86A-Q1&fileType=pdf; ComponentLink2Description: URL Link1; ComponentLink2URL: SamplesURL:http://www.ti.com/product/sn65lvds86a-q1#samples
footprint DGG48_N (TSSOP, 48-Leads, Body 12.5x6.1mm, Pitch 0.5mm, IPC Medium Density)
footprint DGG48_L (TSSOP, 48-Leads, Body 12.5x6.1mm, Pitch 0.5mm, IPC High Density)
footprint DGG48_M (TSSOP, 48-Leads, Body 12.5x6.1mm, Pitch 0.5mm, IPC Low Density)
pins: 1 D17 (out), 2 D18 (out), 3 GND (power), 4 D19 (out), 5 D20 (out), 6 NC, 7 LVDSGND (power), 8 A0M (in), 9 A0P (in), 10 A1M (in), 11 A1P (in), 12 LVDSVCC (power), 13 LVDSGND (power), 14 A2M (in), 15 A2P (in), 16 CLKINM (in), 17 CLKINP (in), 18 LVDSGND (power), 19 PLLGND (power), 20 PLLVCC (power), 21 PLLGND (power), 22 ~{SHTDN} (in), 23 CLKOUT (out), 24 D0 (out), 25 GND (power), 26 D1 (out), 27 D2 (out), 28 VCC (power), 29 D3 (out), 30 D4 (out), 31 D5 (out), 32 GND (power), 33 D6 (out), 34 D7 (out), 35 D8 (out), 36 VCC (power), 37 D9 (out), 38 GND (power), 39 D10 (out), 40 D11 (out), 41 D12 (out), 42 VCC (power), 43 D13 (out), 44 GND (power), 45 D14 (out), 46 D15 (out), 47 D16 (out), 48 VCC (power)

## SN65LVDS86AQDGGR
designator U?
163 MB/s Flatlink Receiver with 3 Receiver Channels, 3.3 V, -40 to +125 degC, 48-pin TSSOP (DGG), Green (RoHS & no Sb/Br); Manufacturer: Texas Instruments; PartNumber: SN65LVDS86AQDGGR; Data Throughput(MB/s): 163; Number of Parallel Outputs: 21; PLL Frequency(MHz): 32 - 68; Receiver (Vth)(mV): 100; Receiver tpd(ns): 5; Serial Data Receiver Channels: 3; SubFamily: FlatLink (LVDS for LCD); Supply Voltage(s)(V): 3.3; Type of Line Circuit: LVDS; DatasheetVersion: SLLS318D; PackageVersion: revF, Dec-1997; PackageReference: DGG48; PackageDescription: 48-Pin Plastic Thin Shrink Small Outline Package 0.5 mm Pitch; Supplier 1: Digi-Key; Supplier Part Number 1: 296-9748-2-ND; Supplier 2: Digi-Key; Supplier Part Number 2: 296-9748-1-ND; Supplier 3: Newark; Supplier Part Number 3: 76C0801; Supplier 4: Mouser; Supplier Part Number 4: 595-SN65LVDS86AQDGGR; Eco-Plan: Green (RoHS & no Sb/Br); Mounting Technology: Surface Mount; Code_JEDEC: MO-153; ComponentLink1Description: Datasheet; ComponentLink1URL: http://www.ti.com/general/docs/lit/getliterature.tsp?genericPartNumber=SN65LVDS86A&fileType=pdf; ComponentLink2Description: URL Link1; ComponentLink2URL: SamplesURL:http://www.ti.com/product/sn65lvds86a#samples
footprint DGG48_N (TSSOP, 48-Leads, Body 12.5x6.1mm, Pitch 0.5mm, IPC Medium Density)
footprint DGG48_L (TSSOP, 48-Leads, Body 12.5x6.1mm, Pitch 0.5mm, IPC High Density)
footprint DGG48_M (TSSOP, 48-Leads, Body 12.5x6.1mm, Pitch 0.5mm, IPC Low Density)
pins: 1 D17 (out), 2 D18 (out), 3 GND (power), 4 D19 (out), 5 D20 (out), 6 NC, 7 LVDSGND (power), 8 A0M (in), 9 A0P (in), 10 A1M (in), 11 A1P (in), 12 LVDSVCC (power), 13 LVDSGND (power), 14 A2M (in), 15 A2P (in), 16 CLKINM (in), 17 CLKINP (in), 18 LVDSGND (power), 19 PLLGND (power), 20 PLLVCC (power), 21 PLLGND (power), 22 ~{SHTDN} (in), 23 CLKOUT (out), 24 D0 (out), 25 GND (power), 26 D1 (out), 27 D2 (out), 28 VCC (power), 29 D3 (out), 30 D4 (out), 31 D5 (out), 32 GND (power), 33 D6 (out), 34 D7 (out), 35 D8 (out), 36 VCC (power), 37 D9 (out), 38 GND (power), 39 D10 (out), 40 D11 (out), 41 D12 (out), 42 VCC (power), 43 D13 (out), 44 GND (power), 45 D14 (out), 46 D15 (out), 47 D16 (out), 48 VCC (power)

## SN65LVDS86AQDGGRG4
designator U?
163 MB/s Automotive Catalog FlatLink Receiver with 3 Receiver Channels, 3.3 V, -40 to +125 degC, 48-pin TSSOP (DGG), Green (RoHS & no Sb/Br); Manufacturer: Texas Instruments; PartNumber: SN65LVDS86AQDGGRG4; Data Throughput(MB/s): 163; Number of Parallel Outputs: 21; PLL Frequency(MHz): 32 - 68; Receiver (Vth)(mV): 100; Receiver tpd(ns): 5; Serial Data Receiver Channels: 3; SubFamily: FlatLink (LVDS for LCD); Supply Voltage(s)(V): 3.3; Type of Line Circuit: LVDS; DatasheetVersion: SLLS768A; PackageVersion: revF, Dec-1997; PackageReference: DGG48; PackageDescription: 48-Pin Plastic Thin Shrink Small Outline Package 0.5 mm Pitch; Supplier 1: Mouser; Supplier Part Number 1: N/A; Eco-Plan: Green (RoHS & no Sb/Br); Mounting Technology: Surface Mount; Code_JEDEC: MO-153; ComponentLink1Description: Datasheet; ComponentLink1URL: http://www.ti.com/general/docs/lit/getliterature.tsp?genericPartNumber=SN65LVDS86A-Q1&fileType=pdf; ComponentLink2Description: URL Link1; ComponentLink2URL: SamplesURL:http://www.ti.com/product/sn65lvds86a-q1#samples
footprint DGG48_N (TSSOP, 48-Leads, Body 12.5x6.1mm, Pitch 0.5mm, IPC Medium Density)
footprint DGG48_L (TSSOP, 48-Leads, Body 12.5x6.1mm, Pitch 0.5mm, IPC High Density)
footprint DGG48_M (TSSOP, 48-Leads, Body 12.5x6.1mm, Pitch 0.5mm, IPC Low Density)
pins: 1 D17 (out), 2 D18 (out), 3 GND (power), 4 D19 (out), 5 D20 (out), 6 NC, 7 LVDSGND (power), 8 A0M (in), 9 A0P (in), 10 A1M (in), 11 A1P (in), 12 LVDSVCC (power), 13 LVDSGND (power), 14 A2M (in), 15 A2P (in), 16 CLKINM (in), 17 CLKINP (in), 18 LVDSGND (power), 19 PLLGND (power), 20 PLLVCC (power), 21 PLLGND (power), 22 ~{SHTDN} (in), 23 CLKOUT (out), 24 D0 (out), 25 GND (power), 26 D1 (out), 27 D2 (out), 28 VCC (power), 29 D3 (out), 30 D4 (out), 31 D5 (out), 32 GND (power), 33 D6 (out), 34 D7 (out), 35 D8 (out), 36 VCC (power), 37 D9 (out), 38 GND (power), 39 D10 (out), 40 D11 (out), 41 D12 (out), 42 VCC (power), 43 D13 (out), 44 GND (power), 45 D14 (out), 46 D15 (out), 47 D16 (out), 48 VCC (power)

## SN65LVDS86AQDGGRQ1
designator U?
163 MB/s Automotive Catalog FlatLink Receiver with 3 Receiver Channels, 3.3 V, -40 to +125 degC, 48-pin TSSOP (DGG), Green (RoHS & no Sb/Br); Manufacturer: Texas Instruments; PartNumber: SN65LVDS86AQDGGRQ1; Data Throughput(MB/s): 163; Number of Parallel Outputs: 21; PLL Frequency(MHz): 32 - 68; Receiver (Vth)(mV): 100; Receiver tpd(ns): 5; Serial Data Receiver Channels: 3; SubFamily: FlatLink (LVDS for LCD); Supply Voltage(s)(V): 3.3; Type of Line Circuit: LVDS; DatasheetVersion: SLLS768A; PackageVersion: revF, Dec-1997; PackageReference: DGG48; PackageDescription: 48-Pin Plastic Thin Shrink Small Outline Package 0.5 mm Pitch; Supplier 1: Digi-Key; Supplier Part Number 1: 296-23719-2-ND; Supplier 2: Digi-Key; Supplier Part Number 2: 296-23719-1-ND; Supplier 3: Digi-Key; Supplier Part Number 3: 296-23719-6-ND; Supplier 4: Newark; Supplier Part Number 4: 30M1713; Supplier 5: Mouser; Supplier Part Number 5: 595-65LVDS86AQDGGRQ1; Eco-Plan: Green (RoHS & no Sb/Br); Mounting Technology: Surface Mount; Code_JEDEC: MO-153; ComponentLink1Description: Datasheet; ComponentLink1URL: http://www.ti.com/general/docs/lit/getliterature.tsp?genericPartNumber=SN65LVDS86A-Q1&fileType=pdf; ComponentLink2Description: URL Link1; ComponentLink2URL: SamplesURL:http://www.ti.com/product/sn65lvds86a-q1#samples
footprint DGG48_N (TSSOP, 48-Leads, Body 12.5x6.1mm, Pitch 0.5mm, IPC Medium Density)
footprint DGG48_L (TSSOP, 48-Leads, Body 12.5x6.1mm, Pitch 0.5mm, IPC High Density)
footprint DGG48_M (TSSOP, 48-Leads, Body 12.5x6.1mm, Pitch 0.5mm, IPC Low Density)
pins: 1 D17 (out), 2 D18 (out), 3 GND (power), 4 D19 (out), 5 D20 (out), 6 NC, 7 LVDSGND (power), 8 A0M (in), 9 A0P (in), 10 A1M (in), 11 A1P (in), 12 LVDSVCC (power), 13 LVDSGND (power), 14 A2M (in), 15 A2P (in), 16 CLKINM (in), 17 CLKINP (in), 18 LVDSGND (power), 19 PLLGND (power), 20 PLLVCC (power), 21 PLLGND (power), 22 ~{SHTDN} (in), 23 CLKOUT (out), 24 D0 (out), 25 GND (power), 26 D1 (out), 27 D2 (out), 28 VCC (power), 29 D3 (out), 30 D4 (out), 31 D5 (out), 32 GND (power), 33 D6 (out), 34 D7 (out), 35 D8 (out), 36 VCC (power), 37 D9 (out), 38 GND (power), 39 D10 (out), 40 D11 (out), 41 D12 (out), 42 VCC (power), 43 D13 (out), 44 GND (power), 45 D14 (out), 46 D15 (out), 47 D16 (out), 48 VCC (power)